# Altium footprint library comm sub.PcbLib: 38 footprints (part 2 of 3)
Each footprint in its own frame and in the unit in brackets; x right, y up, seen from the top. Pads: shape width x height; smd on the part's side, far side on the other; paste and mask are expansions set on the pad; w line width, h text height; cw(c..) or ccw(c..) is an arc to the next point about the centre after c.
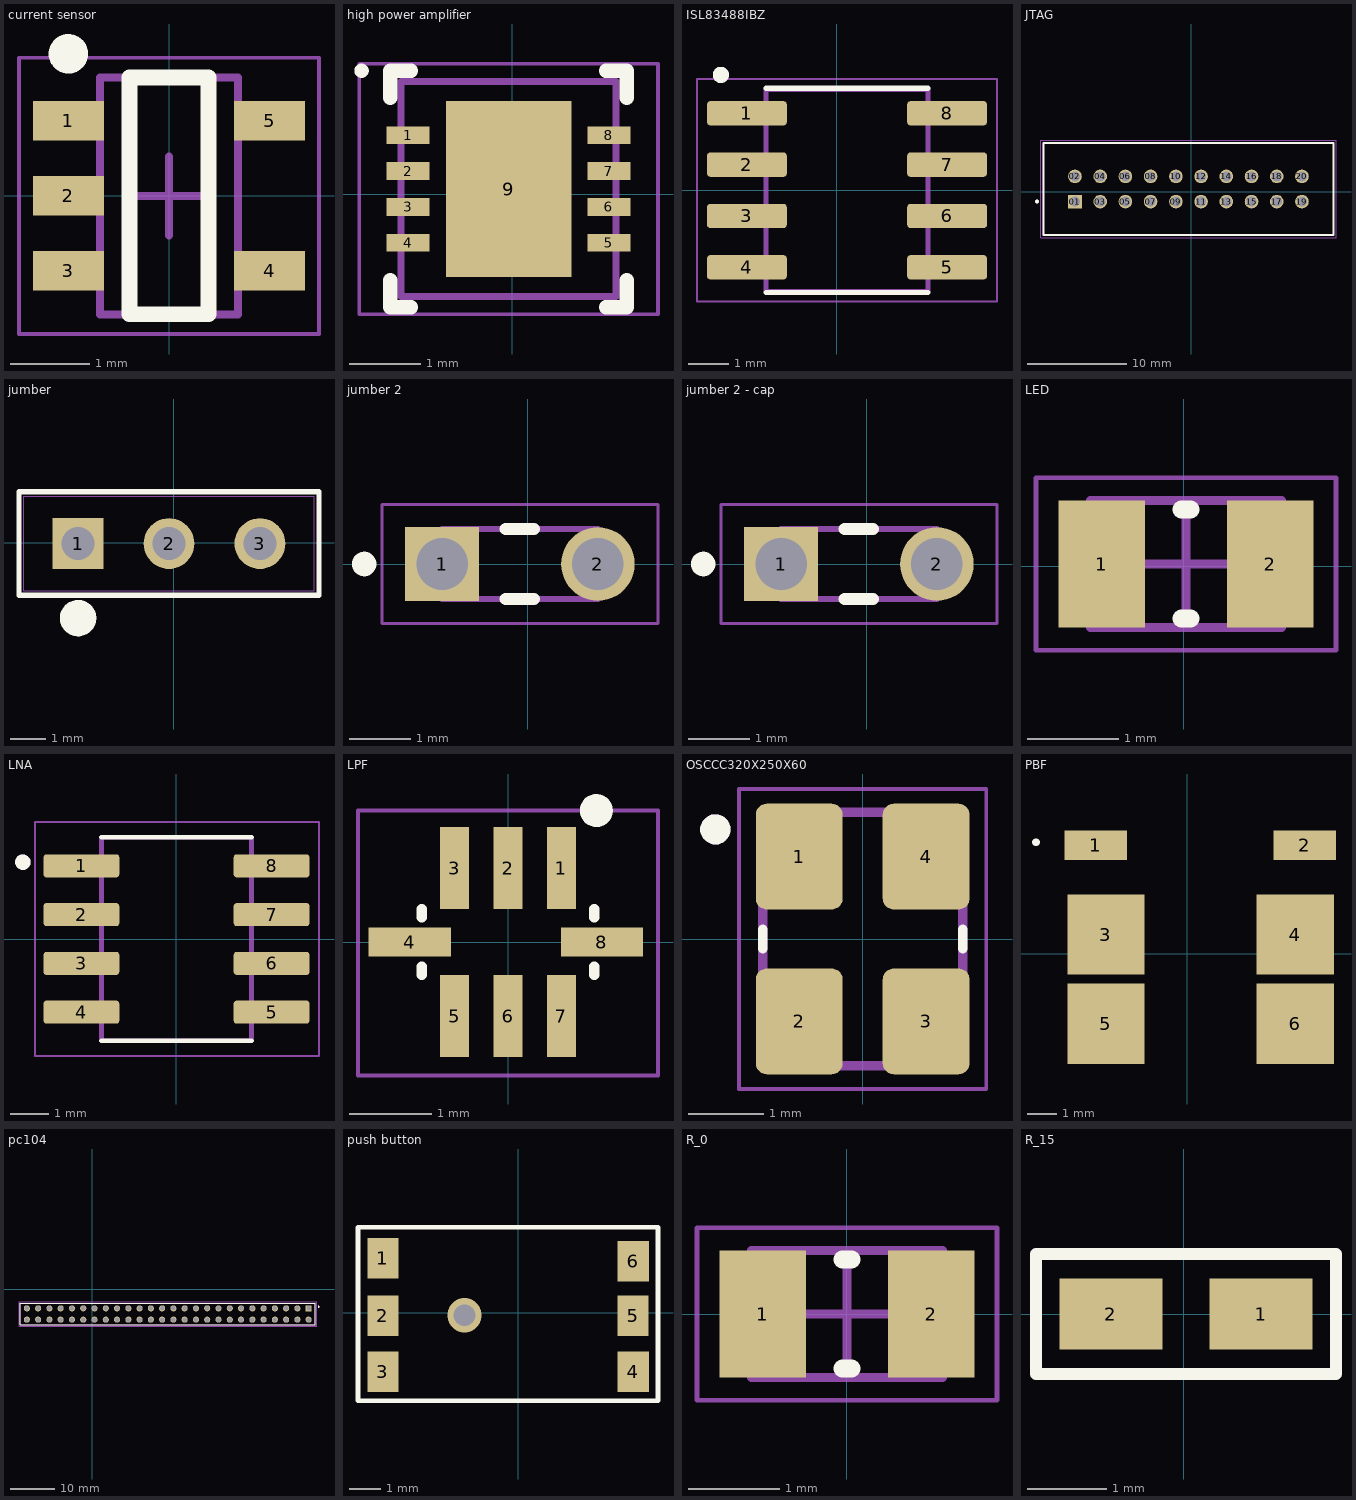
[diagram p1: the footprints below, top view; thin cyan lines are the x and y axes]

## current sensor [mm] "SOT23, 5-Leads, Body 2.90x2.48mm, Pitch 0.95mm, IPC Medium Density"
height 1.25
pads (5):
  rect 0.9x0.5 smd: 1(-1.275,0.95) 2(-1.275,0) 3(-1.275,-0.95) 4(1.275,-0.95) 5(1.275,0.95)
Top Overlay:
  circle w0.25: c-1.275,1.8 r0.125
  lines w0.2: -0.5,-1.5 -0.5,1.5 0.5,1.5 0.5,-1.5 -0.5,-1.5
Assembly Top:
  lines w0.1: -0.875,-1.5 0.875,-1.5 0.875,1.5 -0.875,1.5 -0.875,-1.5
Courtyard Top:
  lines w0.05: -1.9,-1.75 1.9,-1.75 1.9,1.75 -1.9,1.75 -1.9,-1.75
  lines w0.1: -0.5,0 0.5,0 ; 0,-0.5 0,0.5
3D body "LTC6101HVAHS5#TRMPBF.STEP": height 1, standoff 0, extent -1.4,-1.45 1.4,1.45

## high power amplifier [mm]
height 1
pads (9):
  rect 0.6x0.25 smd: 1(-1.45,0.825) 2(-1.45,0.325) 3(-1.45,-0.175) 4(-1.45,-0.675) 5(1.35,-0.675) 6(1.35,-0.175) 7(1.35,0.325) 8(1.35,0.825)
  rect 1.75x2.45 smd: 9(-0.05,0.075)
Top Overlay:
  circle w0.1: c-2.1,1.725 r0.05
  lines w0.2: -1.7,-1.2 -1.7,-1.575 -1.41,-1.575 ; -1.7,1.35 -1.7,1.725 -1.41,1.725 ; 1.31,-1.575 1.6,-1.575 1.6,-1.2 ; 1.31,1.725 1.6,1.725 1.6,1.35
Assembly Top:
  lines w0.1: -1.55,-1.425 1.45,-1.425 1.45,1.575 -1.55,1.575 -1.55,-1.425
Courtyard Top:
  lines w0.05: -2.135,-1.675 2.035,-1.675 2.035,1.825 -2.135,1.825 -2.135,-1.675
  lines w0.1: -0.55,0.075 0.45,0.075 ; -0.05,-0.425 -0.05,0.575
3D body "BGA6130,118.stp": height 1, standoff 0, extent -1.6,-1.425 1.5,1.575

## ISL83488IBZ [mm]
pads (8):
  rrect25% 1.97x0.6 smd: 1(-2.221,1.905) 2(-2.221,0.635) 3(-2.221,-0.635) 4(-2.221,-1.905) 5(2.729,-1.905) 6(2.729,-0.635) 7(2.729,0.635) 8(2.729,1.905)
Top Overlay:
  circle w0.2: c-2.866,2.855 r0.1
  lines w0.127: -1.746,-2.525 2.254,-2.525 ; -1.746,2.525 2.254,2.525
Mechanical 13:
  circle w0.2: c-2.866,2.855 r0.1
  lines w0.127: -1.746,-2.5 2.254,-2.5 2.254,2.5 -1.746,2.5 -1.746,-2.5
Mechanical 15:
  lines w0.05: -3.456,-2.75 3.964,-2.75 3.964,2.75 -3.456,2.75 -3.456,-2.75
3D body "step_temp.STEP": height 1.75, standoff 0, extent -2.746,-2.45 3.254,2.45

## JTAG [mm]
pads (20):
  rect 1.37x1.37 hole 1.02: 01(-11.684,-1.016)
  round 1.37 hole 1.02: 02(-11.684,1.524) 03(-9.144,-1.016) 04(-9.144,1.524) 05(-6.604,-1.016) 06(-6.604,1.524) 07(-4.064,-1.016) 08(-4.064,1.524) 09(-1.524,-1.016) 10(-1.524,1.524) 11(1.016,-1.016) 12(1.016,1.524) 13(3.556,-1.016) 14(3.556,1.524) 15(6.096,-1.016) 16(6.096,1.524) 17(8.636,-1.016) 18(8.636,1.524) 19(11.176,-1.016) 20(11.176,1.524)
Top Overlay:
  circle w0.2: c-15.509,-1.016 r0.1
  lines w0.2: -14.859,-4.381 14.351,-4.381 14.351,4.889 -14.859,4.889 -14.859,-4.381
Mechanical 13:
  circle w0.2: c-15.509,-1.016 r0.1
  lines w0.1: -14.859,-4.381 14.351,-4.381 14.351,4.889 -14.859,4.889 -14.859,-4.381
Mechanical 15:
  lines w0.05: -15.109,-4.631 14.601,-4.631 14.601,5.139 -15.109,5.139 -15.109,-4.631
3D body "TSS-110-01-G-D.stp": height 8.89, standoff -3.3, extent -14.859,-4.318 14.351,4.953

## jumber [mil]
pads (3):
  rect 56x56 hole 36 mask+0: 1(-105.31,-0.68)
  round 56 hole 36 mask+0: 2(-5.32,-0.68) 3(94.69,-0.68)
Top Overlay:
  circle w20: c-105.31,-82.68 r10
  lines w6: -170.31,-57.68 159.69,-57.68 159.69,56.32 -170.31,56.32 -170.31,-57.68
3D Body Bottom:
  lines w1: -105.31,-102.68 -95.31,-97.68
Mechanical 13:
  lines w1: -165.31,-52.68 154.69,-52.68 154.69,51.32 -165.31,51.32 -165.31,-52.68
3D body: height 10, standoff 0, extent -105.31,-0.68 -95.31,9.32
3D body "M20-9990345--3DModel-STEP-56544.STEP": height 341.34, standoff -116.93, extent -155.32,-52.68 144.68,47.32

## jumber 2 [mm]
pads (2):
  rect 1.2x1.2 hole 0.84: 1(-1.397,0)
  round 1.2 hole 0.84: 2(1.143,0)
Top Overlay:
  circle w0.2: c-2.667,0 r0.1
  circle w0.2: c-2.667,0 r0.1
  lines w0.2: -0.357,-0.57 0.103,-0.57 ; -0.357,0.57 0.103,0.57
Mechanical 13:
  lines w0.1: -1.397,-0.57 1.143,-0.57 1.143,0.57 -1.397,0.57 -1.397,-0.57
Mechanical 15:
  lines w0.05: -2.377,-0.97 -2.377,0.97 2.123,0.97 2.123,-0.97 -2.377,-0.97
3D body "c-5-146280-2-d-3d.stp": height 5.33, standoff -5.84, extent -2.462,-1.168 2.212,1.169

## jumber 2 - cap [mm]
pads (2):
  rect 1.2x1.2 hole 0.84: 1(-1.397,0)
  round 1.2 hole 0.84: 2(1.143,0)
Top Overlay:
  circle w0.2: c-2.667,0 r0.1
  circle w0.2: c-2.667,0 r0.1
  lines w0.2: -0.357,-0.57 0.103,-0.57 ; -0.357,0.57 0.103,0.57
Mechanical 13:
  lines w0.1: -1.397,-0.57 1.143,-0.57 1.143,0.57 -1.397,0.57 -1.397,-0.57
Mechanical 15:
  lines w0.05: -2.377,-0.97 -2.377,0.97 2.123,0.97 2.123,-0.97 -2.377,-0.97
3D body "60900213421_Downloads_STP_60900213421_rev1 (1).stp": height 4.69, standoff -1.29, extent -2.627,-1.22 2.373,1.22

## LED [mm]
pads (2):
  rect 0.95x1.4 smd: 1(-0.9,0.025) 2(0.95,0.025)
Top Overlay:
  lines w0.2: -0.025,-0.575 0.075,-0.575 ; -0.025,0.625 0.075,0.625
Assembly Top:
  lines w0.1: -1.025,-0.675 -1.025,0.725 1.075,0.725 1.075,-0.675 -1.025,-0.675
Courtyard Top:
  lines w0.05: -1.625,-0.925 -1.625,0.975 1.675,0.975 1.675,-0.925 -1.625,-0.925
  lines w0.1: -0.475,0.025 0.525,0.025 ; 0.025,-0.475 0.025,0.525
3D body "LTST-C191KGKT--3DModel-STEP-56544.STEP": height 0.55, standoff 0, extent -0.8,-0.325 0.8,0.475
3D body: height 0.5, standoff 0, extent -0.675,-0.675 0.725,0.725
3D body: height 0.5, standoff 0, extent -1.025,-0.675 -0.675,0.725
3D body: height 0.5, standoff 0, extent 0.725,-0.675 1.075,0.725

## LNA [mm]
pads (8):
  rrect25% 1.97x0.6 smd: 1(-2.475,1.905) 2(-2.475,0.635) 3(-2.475,-0.635) 4(-2.475,-1.905) 5(2.475,-1.905) 6(2.475,-0.635) 7(2.475,0.635) 8(2.475,1.905)
Top Overlay:
  circle w0.2: c-4,2 r0.1
  lines w0.127: -1.95,-2.65 1.95,-2.65 ; -1.95,2.65 1.95,2.65
Mechanical 13:
  circle w0.2: c-4,2 r0.1
  lines w0.127: -1.95,-2.65 -1.95,2.65 1.95,2.65 1.95,-2.65 -1.95,-2.65
Mechanical 15:
  lines w0.05: -3.683,-3.048 3.71,-3.048 3.71,3.048 -3.683,3.048 -3.683,-3.048
3D body "step_temp.STEP": height 1.75, standoff 0, extent -3,-2.45 3,2.45

## LPF [mm]
pads (8):
  rect 0.35x1 smd mask+0: 1(0.65,0.9) 2(0,0.9) 3(-0.65,0.9) 5(-0.65,-0.9) 6(0,-0.9) 7(0.65,-0.9)
  rect 1x0.35 smd mask+0: 4(-1.195,0) 8(1.143,0)
Top Overlay:
  circle w0.2: c1.075,1.6 r0.1
  lines w0.127: -1.05,-0.4 -1.05,-0.3 ; -1.05,0.3 -1.05,0.4 ; 1.05,-0.4 1.05,-0.3 ; 1.05,0.3 1.05,0.4
Mechanical 15:
  lines w0.05: -1.825,-1.625 -1.825,1.6 1.825,1.6 1.825,-1.625 -1.825,-1.625
3D body "0915LP15B026E--3DModel-STEP-56544.STEP": height 0.95, standoff 0, extent -1,-0.625 1,0.625

## OSCCC320X250X60 [mm]
pads (4):
  rrect25% 1.15x1.4 smd: 1(-0.84,1.09) 2(-0.84,-1.09) 3(0.84,-1.09) 4(0.84,1.09)
Top Overlay:
  circle w0.2: c-1.95,1.45 r0.1
  lines w0.127: -1.325,-0.132 -1.325,0.132 ; 1.325,-0.132 1.325,0.132
Mechanical 13:
  circle w0.2: c-1.95,1.45 r0.1
  lines w0.127: -1.325,-1.675 1.325,-1.675 1.325,1.675 -1.325,1.675 -1.325,-1.675
Mechanical 15:
  lines w0.05: -1.635,-1.985 1.635,-1.985 1.635,1.985 -1.635,1.985 -1.635,-1.985
3D body "User Library-tsx-3225-1.STEP": height 0.6, standoff 0, extent -1.245,-1.6 1.255,1.6

## PBF [mm]
pads (6):
  rect 2.1x1 smd: 1(-3.075,3.65) 2(3.95,3.65)
  rect 2.6x2.7 smd: 3(-2.725,0.65) 4(3.625,0.65) 5(-2.725,-2.35) 6(3.625,-2.35)
Top Overlay:
  lines w0.254: -5.075,3.75 -5.075,3.75
3D body "DBP.433.T.A.30.stp": height 4.1, standoff 0, extent -4,-4.375 4.85,5.625

## pc104 [mm] "connector"
pads (52):
  rect 1.37x1.37 hole 1.02: 01(48.8,-4.33)
  round 1.37 hole 1.02: 02(48.8,-6.87) 03(46.26,-4.33) 04(46.26,-6.87) 05(43.72,-4.33) 06(43.72,-6.87) 07(41.18,-4.33) 08(41.18,-6.87) 09(38.64,-4.33) 10(38.64,-6.87) 11(36.1,-4.33) 12(36.1,-6.87) 13(33.56,-4.33) 14(33.56,-6.87) 15(31.02,-4.33) 16(31.02,-6.87) 17(28.48,-4.33) 18(28.48,-6.87) 19(25.94,-4.33) 20(25.94,-6.87) 21(23.4,-4.33) 22(23.4,-6.87) 23(20.86,-4.33) 24(20.86,-6.87) 25(18.32,-4.33) 26(18.32,-6.87) 27(15.78,-4.33) 28(15.78,-6.87) 29(13.24,-4.33) 30(13.24,-6.87) 31(10.7,-4.33) 32(10.7,-6.87) 33(8.16,-4.33) 34(8.16,-6.87) 35(5.62,-4.33) 36(5.62,-6.87) 37(3.08,-4.33) 38(3.08,-6.87) 39(0.54,-4.33) 40(0.54,-6.87) 41(-2,-4.33) 42(-2,-6.87) 43(-4.54,-4.33) 44(-4.54,-6.87) 45(-7.08,-4.33) 46(-7.08,-6.87) 47(-9.62,-4.33) 48(-9.62,-6.87) 49(-12.16,-4.33) 50(-12.16,-6.87) 51(-14.7,-4.33) 52(-14.7,-6.87)
Top Overlay:
  circle w0.2: c51.025,-3.995 r0.1
  lines w0.2: -16.225,-8.075 50.325,-8.075 50.325,-3.125 -16.225,-3.125 -16.225,-8.075
Mechanical 13:
  circle w0.2: c51.025,-3.995 r0.1
  lines w0.1: -16.225,-8.075 -16.225,-3.125 ; -16.225,-8.075 50.325,-8.075 ; -16.225,-8.075 -16.225,-3.125 ; -16.225,-3.125 50.325,-3.125 ; -16.225,-3.125 50.325,-3.125 ; 50.325,-8.075 50.325,-3.125 ; 50.325,-8.075 50.325,-3.125
Mechanical 15:
  lines w0.05: -16.475,-8.325 50.575,-8.325 50.575,-2.875 -16.475,-2.875 -16.475,-8.325
3D body "ESQ-126-49-G-D.stp": height 13.51, standoff -9.73, extent -16.274,-8.232 50.274,-3.152

## push button [mm]
pads (6):
  rect 1x1.3 smd: 1(-4.35,1.75) 2(-4.35,-0.1) 3(-4.35,-1.9) 4(3.703,-1.9) 5(3.7,-0.1) 6(3.703,1.659)
via -1.725,-0.075 diameter 1.1 hole 0.7
Top Overlay:
  lines w0.15: -5.15,-2.825 -5.15,2.75 ; -5.125,-2.825 4.475,-2.825 ; -5.1,2.75 4.5,2.75 4.5,-2.825
3D body "SPEJ110100.STEP": height 8, standoff -0.8, extent -4.575,-3.525 3.825,3.475

## R_0 [mm]
height 0.5
pads (2):
  rect 0.95x1.4 smd: 1(-0.925,0) 2(0.925,0)
Top Overlay:
  lines w0.2: -0.05,-0.6 0.05,-0.6 ; -0.05,0.6 0.05,0.6
Assembly Top:
  lines w0.1: -1.05,-0.7 -1.05,0.7 1.05,0.7 1.05,-0.7 -1.05,-0.7
Courtyard Top:
  lines w0.05: -1.65,-0.95 -1.65,0.95 1.65,0.95 1.65,-0.95 -1.65,-0.95
  lines w0.1: -0.5,0 0.5,0 ; 0,-0.5 0,0.5
3D body: height 0.5, standoff 0, extent -0.7,-0.7 0.7,0.7
3D body: height 0.5, standoff 0, extent -1.05,-0.7 -0.7,0.7
3D body: height 0.5, standoff 0, extent 0.7,-0.7 1.05,0.7

## R_15 [mm]
height 0.45
pads (2):
  rect 1.3x0.9 smd: 1(0.975,0) 2(-0.925,0)
Top Overlay:
  lines w0.15: -1.875,-0.762 1.925,-0.762 1.925,0.762 -1.875,0.762 -1.875,-0.762
3D body "CircuitWorks-CAPACITOR 0805.STEP": height 1.27, standoff -0.04, extent -0.975,-0.379 1.025,0.381